# Altium schematic symbol library TPS51116RGE-VQFN24.SchLib: 1 symbol
Pins are listed as number, name and electrical type; pins without a type are passive.

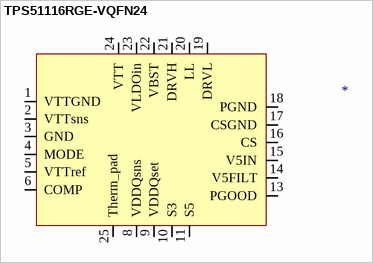
[diagram p0: symbol TPS51116RGE-VQFN24]

## TPS51116RGE-VQFN24
designator *  (value not drawn)
pins: 1 VTTGND, 2 VTTsns, 3 GND, 4 MODE, 5 VTTref, 6 COMP, 8 VDDQsns, 9 VDDQset, 10 S3, 11 S5, 13 PGOOD, 14 V5FILT, 15 V5IN, 16 CS, 17 CSGND, 18 PGND, 19 DRVL, 20 LL, 21 DRVH, 22 VBST, 23 VLDOin, 24 VTT, 25 Therm_pad